# EAGLE library part 74*14 (library IC)
Hex Schmidt Trigger Inverter
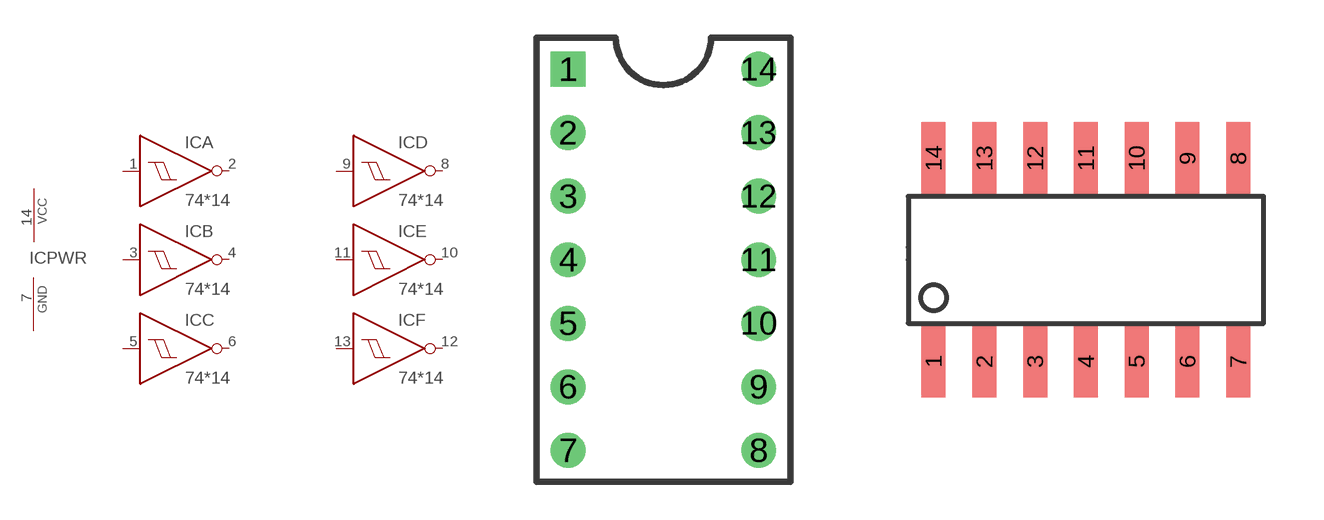
[diagram p5: symbol with the pads of DIP-14C; footprints DIP-14C, SOIC14]

Designator prefix IC; gates A=7414 B=7414 C=7414 D=7414 E=7414 F=7414 PWR=PWR-VCC-GND

## 74ACT14N, 74HC14N  [DIP-14C]
1  A:I  in
2  A:O  out
3  B:I  in
4  B:O  out
5  C:I  in
6  C:O  out
7  PWR:GND  pwr
8  D:O  out
9  D:I  in
10  E:O  out
11  E:I  in
12  F:O  out
13  F:I  in
14  PWR:VCC  pwr

## 74ACT14D, 74HC14D, 74HCT14D  [SOIC14]
Pads as for DIP-14C

## Footprint DIP-14C (pad centres in mm)
drill 0.889 square: 1 -3.81,7.62
drill 0.889 round: 2 -3.81,5.08; 3 -3.81,2.54; 4 -3.81,0; 5 -3.81,-2.54; 6 -3.81,-5.08; 7 -3.81,-7.62; 8 3.81,-7.62; 9 3.81,-5.08; 10 3.81,-2.54; 11 3.81,0; 12 3.81,2.54; 13 3.81,5.08; 14 3.81,7.62

## Footprint SOIC14 (pad centres in mm)
SOIC-14, 1.27mm pitch, 6.2mm width, 8.75mm length
smd 0.6 x 1.8: 1 -3.81,-2.54; 2 -2.54,-2.54; 3 -1.27,-2.54; 4 0,-2.54; 5 1.27,-2.54; 6 2.54,-2.54; 7 3.81,-2.54; 8 3.81,2.54; 9 2.54,2.54; 10 1.27,2.54; 11 0,2.54; 12 -1.27,2.54; 13 -2.54,2.54; 14 -3.81,2.54